# Altium footprint library HyTechDevices.PCBLIB: 298 footprints (part 12 of 19)
Each footprint in its own frame and in the unit in brackets; x right, y up, seen from the top. Pads: shape width x height; smd on the part's side, far side on the other; paste and mask are expansions set on the pad; w line width, h text height; cw(c..) or ccw(c..) is an arc to the next point about the centre after c.
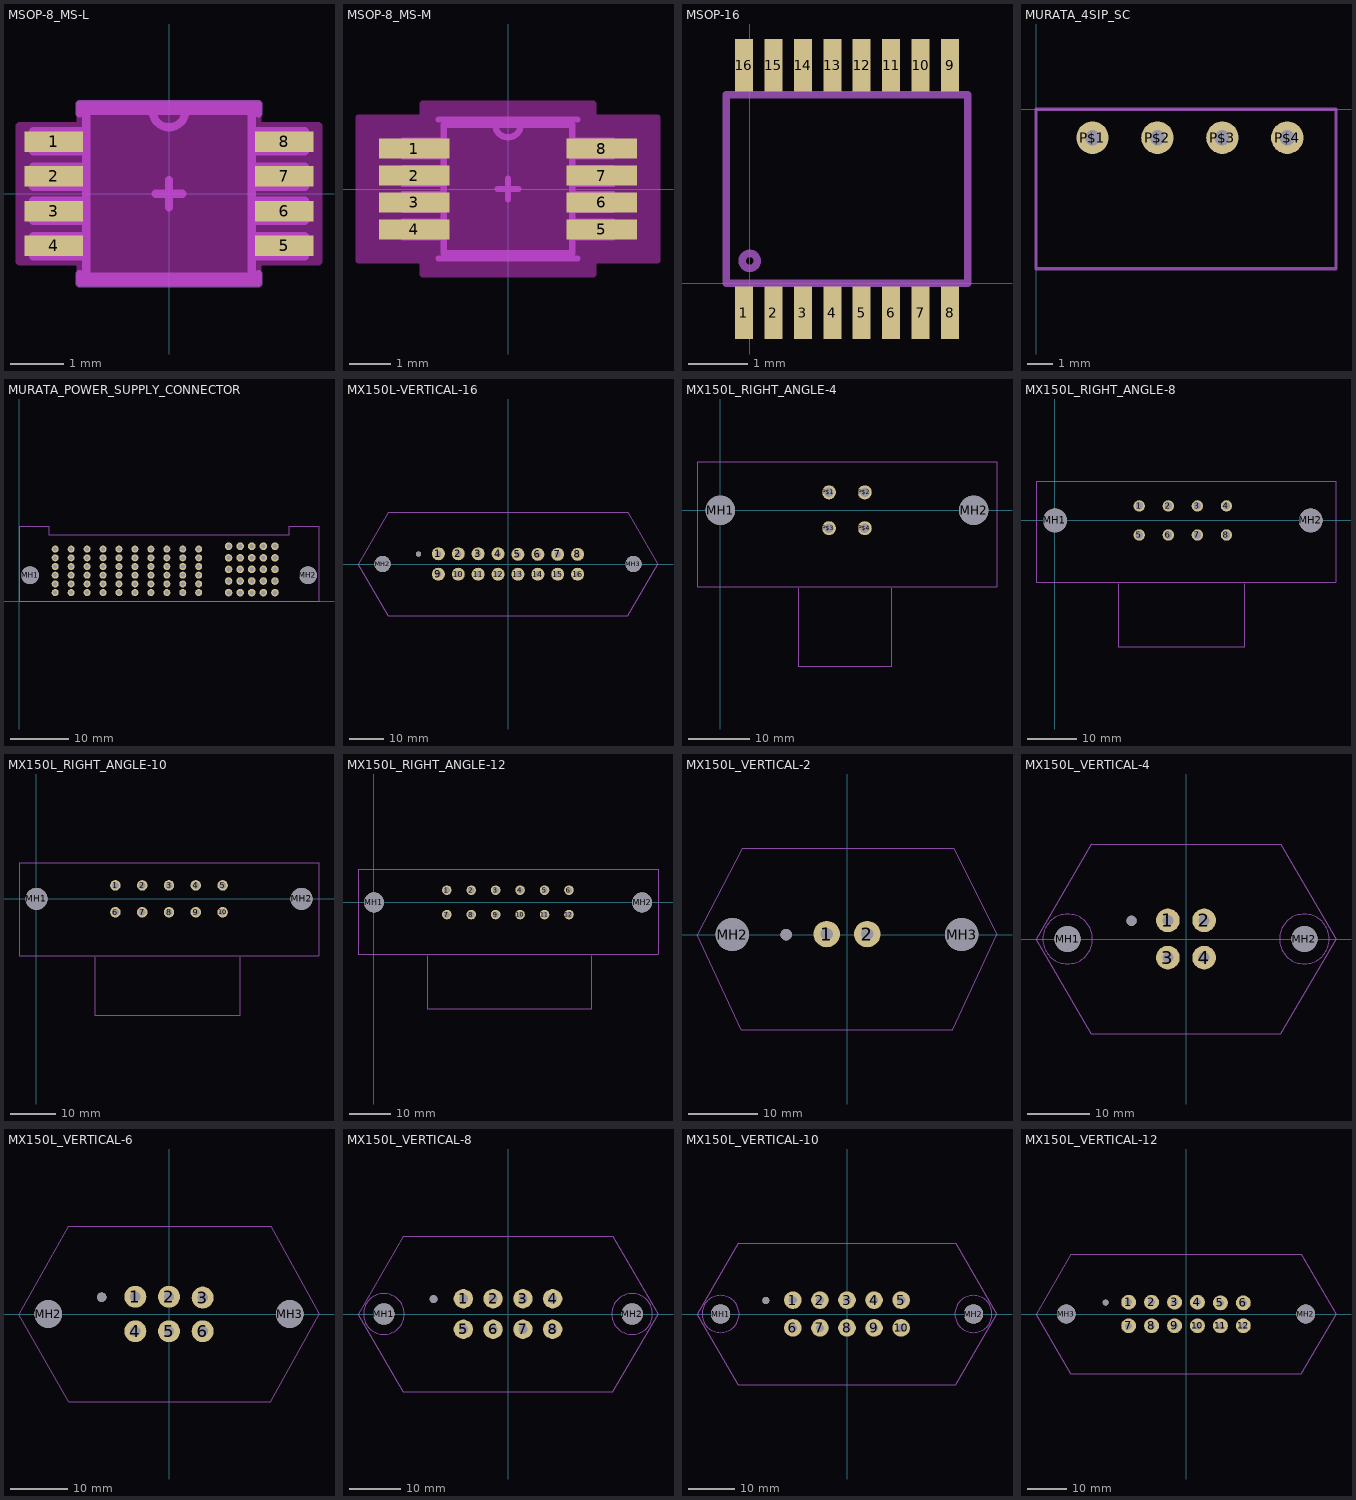
[diagram p11: the footprints below, top view; thin cyan lines are the x and y axes]

## MSOP-8_MS-L [mil]
pads (8):
  rect 43x15 smd: 1(-85,38.39) 2(-85,12.8) 3(-85,-12.8) 4(-85,-38.39) 5(85,-38.39) 6(85,-12.8) 7(85,12.8) 8(85,38.39)
Top Layer keep-out:
  region: -110.5,-49.89 -110.5,49.89 -65,49.89 -65,65 65,65 65,49.89 110.5,49.89 110.5,-49.89 65,-49.89 65,-65 -65,-65 -65,-49.89
  lines w6: -110,-50 -110,50 -65,50 -65,65 65,65 65,50 110,50 110,-50 65,-50 65,-65 -65,-65 -65,-50 -110,-50
Mechanical 3:
  lines w6: -12,61 12,61 ; -12,61 -61,61 -61,-61 61,-61 61,61 12,61 ; -12,61 ccw(c0,61) 12,61 ; -100,-46 -100,-31 -61,-31 -61,-46 -100,-46 ; -100,-20 -100,-5 -61,-5 -61,-20 -100,-20 ; -100,5 -100,20 -61,20 -61,5 -100,5 ; -100,31 -100,46 -61,46 -61,31 -100,31 ; 61,-46 61,-31 100,-31 100,-46 61,-46 ; 61,-20 61,-5 100,-5 100,-20 61,-20 ; 61,5 61,20 100,20 100,5 61,5 ; 61,31 61,46 100,46 100,31 61,31
  text "*" at -69,8 h77.5
Mechanical 7:
  lines w6: -66,-59 -66,-66 66,-66 66,-59 ; -66,59 -66,66 66,66 66,59
  text "*" at -118,48 h77.5
Top Component Center:
  lines w6: -10,0 10,0 ; 0,-10 0,10

## MSOP-8_MS-M [mil]
pads (8):
  rect 67x19 smd: 1(-89,38.39) 2(-89,12.8) 3(-89,-12.8) 4(-89,-38.39) 5(89,-38.39) 6(89,-12.8) 7(89,12.8) 8(89,38.39)
Top Layer keep-out:
  region: -142.5,-67.89 -142.5,67.89 -81,67.89 -81,81 81,81 81,67.89 142.5,67.89 142.5,-67.89 81,-67.89 81,-81 -81,-81 -81,-67.89
  lines w6: -142,-68 -142,68 -81,68 -81,81 81,81 81,68 142,68 142,-68 81,-68 81,-81 -81,-81 -81,-68 -142,-68
Mechanical 3:
  lines w6: -12,61 12,61 ; -12,61 -61,61 -61,-61 61,-61 61,61 12,61 ; -12,61 ccw(c0,61) 12,61 ; -100,-46 -100,-31 -61,-31 -61,-46 -100,-46 ; -100,-20 -100,-5 -61,-5 -61,-20 -100,-20 ; -100,5 -100,20 -61,20 -61,5 -100,5 ; -100,31 -100,46 -61,46 -61,31 -100,31 ; 61,-46 61,-31 100,-31 100,-46 61,-46 ; 61,-20 61,-5 100,-5 100,-20 61,-20 ; 61,5 61,20 100,20 100,5 61,5 ; 61,31 61,46 100,46 100,31 61,31
  text "*" at -69,8 h77.5
Mechanical 7:
  lines w6: -66,-66 66,-66 ; -66,66 66,66
  text "*" at -122,52 h77.5
Top Component Center:
  lines w6: -10,0 10,0 ; 0,-10 0,10

## MSOP-16 [mil]
pads (16):
  rect 12.01x35 smd: 1(-3.94,-19.69) 2(15.75,-19.69) 3(35.43,-19.69) 4(55.12,-19.69) 5(74.8,-19.69) 6(94.49,-19.69) 7(114.17,-19.69) 8(133.86,-19.69) 9(133.86,145.67) 10(114.17,145.67) 11(94.49,145.67) 12(74.8,145.67) 13(55.12,145.67) 14(35.43,145.67) 15(15.75,145.67) 16(-3.94,145.67)
Mechanical 7:
  circle w5: c0,15 r5
  lines w5: -15.75,0 -15.75,125.98 145.67,125.98 145.67,0 -15.75,0

## MURATA_4SIP_SC [mil]
pads (4):
  round 50 hole 23.62: P$1(87,-44) P$2(187,-44) P$3(287,-44) P$4(387,-44)
Mechanical 7:
  lines w5: 0,-246 0,0 462,0 462,-246 0,-246

## MURATA_POWER_SUPPLY_CONNECTOR [mil]
pads (87):
  round 51.5 hole 31.5: A1(1737.99,59.06) A2(1659.25,59.06) A3(1580.51,59.06) A4(1501.77,59.06) A5(1423.03,59.06) B1(1737.99,137.8) B2(1659.25,137.8) B3(1580.51,137.8) B4(1501.77,137.8) B5(1423.03,137.8) C1(1737.99,216.54) C2(1659.25,216.54) C3(1580.51,216.54) C4(1501.77,216.54) C5(1423.03,216.54) D1(1737.99,295.28) D2(1659.25,295.28) D3(1580.51,295.28) D4(1501.77,295.28) D5(1423.03,295.28) E1(1737.99,374.02) E2(1659.25,374.02) E3(1580.51,374.02) E4(1501.77,374.02) E5(1423.03,374.02)
  round 120.08 hole 120.08 unplated: MH1(74.8,177.17) MH2(1962.2,177.17)
  round 47.56 hole 27.56: P$1A(1220.28,354.33) P$1B(1220.28,295.28) P$1C(1220.28,236.22) P$1D(1220.28,177.17) P$1E(1220.28,118.11) P$1F(1220.28,59.06) P$2A(1112.01,354.33) P$2B(1112.01,295.28) P$2C(1112.01,236.22) P$2D(1112.01,177.17) P$2E(1112.01,118.11) P$2F(1112.01,59.06) P$3A(1003.74,354.33) P$3B(1003.74,295.28) P$3C(1003.74,236.22) P$3D(1003.74,177.17) P$3E(1003.74,118.11) P$3F(1003.74,59.06) P$4A(895.47,354.33) P$4B(895.47,295.28) P$4C(895.47,236.22) P$4D(895.47,177.17) P$4E(895.47,118.11) P$4F(895.47,59.06) P$5A(787.2,354.33) P$5B(787.2,295.28) P$5C(787.2,236.22) P$5D(787.2,177.17) P$5E(787.2,118.11) P$5F(787.2,59.06) P$6A(678.94,354.33) P$6B(678.94,295.28) P$6C(678.94,236.22) P$6D(678.94,177.17) P$6E(678.94,118.11) P$6F(678.94,59.06) P$7A(570.67,354.33) P$7B(570.67,295.28) P$7C(570.67,236.22) P$7D(570.67,177.17) P$7E(570.67,118.11) P$7F(570.67,59.06) P$8A(462.4,354.33) P$8B(462.4,295.28) P$8C(462.4,236.22) P$8D(462.4,177.17) P$8E(462.4,118.11) P$8F(462.4,59.06) P$9A(354.13,354.33) P$9B(354.13,295.28) P$9C(354.13,236.22) P$9D(354.13,177.17) P$9E(354.13,118.11) P$9F(354.13,59.06) P$10A(245.87,354.33) P$10B(245.87,295.28) P$10C(245.87,236.22) P$10D(245.87,177.17) P$10E(245.87,118.11) P$10F(245.87,59.06)
Mechanical 7:
  lines w5: 0,0 2037.01,0 2037.01,506.69 1830.32,506.69 1830.32,450 206.69,450 206.69,506.69 0,506.69 0,0

## MX150L-VERTICAL-16 [mil]
pads (19):
  round 150 hole 70: 1(-805,118) 2(-575,118) 3(-345,118) 4(-115,118) 5(115,112) 6(345,112) 7(575,112) 8(805,112) 9(-805,-118) 10(-575,-118) 11(-345,-118) 12(-115,-118) 13(115,-118) 14(345,-118) 15(575,-118) 16(805,-118)
  round 60 hole 60 unplated: MH1(-1035,115)
  round 188 hole 188 unplated: MH2(-1450,0) MH3(1450,0)
Mechanical 7:
  lines w5: -1734.5,0 -1384.5,600 1384.5,600 1734.5,0 1384.5,-600 -1384.5,-600 -1734.5,0

## MX150L_RIGHT_ANGLE-4 [mil]
pads (6):
  round 188 hole 188 unplated: MH1(0,0) MH2(1624,0)
  round 90 hole 60: P$1(696,115) P$2(926,115) P$3(696,-115) P$4(926,-115)
Mechanical 7:
  lines w5: 500,-500 500,-1000 1100,-1000 1100,-500 ; -150,-490 1774,-490 1774,311 -150,311 -150,-490

## MX150L_RIGHT_ANGLE-8 [mil]
pads (10):
  round 90 hole 60: 1(667,115) 2(897,115) 3(1127,115) 4(1357,115) 5(667,-115) 6(897,-115) 7(1127,-115) 8(1357,-115)
  round 188 hole 188 unplated: MH1(0,0) MH2(2024,0)
Mechanical 7:
  lines w5: 500,-500 500,-1000 1500,-1000 1500,-500 ; -150,-490 2224,-490 2224,311 -150,311 -150,-490

## MX150L_RIGHT_ANGLE-10 [mil]
pads (12):
  round 90 hole 60: 1(677,115) 2(907,115) 3(1137,115) 4(1367,115) 5(1597,115) 6(677,-115) 7(907,-115) 8(1137,-115) 9(1367,-115) 10(1597,-115)
  round 188 hole 188 unplated: MH1(0,0) MH2(2274,0)
Mechanical 7:
  lines w5: 500,-500 500,-1000 1750,-1000 1750,-500 ; -150,-490 2424,-490 2424,311 -150,311 -150,-490

## MX150L_RIGHT_ANGLE-12 [mil]
pads (14):
  round 90 hole 60: 1(686,115) 2(916,115) 3(1146,115) 4(1376,115) 5(1606,115) 6(1836,115) 7(686,-115) 8(916,-115) 9(1146,-115) 10(1376,-115) 11(1606,-115) 12(1836,-115)
  round 188 hole 188 unplated: MH1(0,0) MH2(2524,0)
Mechanical 7:
  lines w5: 500,-500 500,-1000 2050,-1000 2050,-500 ; -150,-490 2674,-490 2674,311 -150,311 -150,-490

## MX150L_VERTICAL-2 [mil]
pads (5):
  round 150 hole 70: 1(-115,3) 2(115,3)
  round 65 hole 65 unplated: MH1(-345,0)
  round 188 hole 188 unplated: MH2(-650,0) MH3(650,0)
Mechanical 7:
  lines w5: -850,0 -595,490 605,490 850,0 600,-540 -600,-540 -850,0

## MX150L_VERTICAL-4 [mil]
pads (7):
  round 150 hole 70: 1(-115,118) 2(115,118) 3(-115,-118) 4(115,-118)
  round 165 hole 165 unplated: MH1(-750,0) MH2(750,0)
  round 65 hole 65 unplated: MH3(-345,115)
Mechanical 7:
  circle w5: c-750,0 r157.48
  circle w5: c750,0 r157.48
  lines w5: -950,0 -600,600 600,600 950,0 600,-600 -600,-600 -950,0
Mechanical 8:
  circle w5: c-750,0 r157.48
  circle w5: c750,0 r157.48

## MX150L_VERTICAL-6 [mil]
pads (9):
  round 150 hole 70: 1(-230,118) 2(0,118) 3(230,112) 4(-230,-118) 5(0,-118) 6(230,-118)
  round 65 hole 65 unplated: MH1(-460,115)
  round 188 hole 188 unplated: MH2(-825,0) MH3(825,0)
Mechanical 7:
  lines w5: -1025,0 -690,600 695,600 1025,0 695,-600 -685,-600 -1025,0

## MX150L_VERTICAL-8 [mil]
pads (11):
  round 150 hole 70: 1(-345,118) 2(-115,118) 3(115,118) 4(345,118) 5(-345,-118) 6(-115,-118) 7(115,-118) 8(345,-118)
  round 165 hole 165 unplated: MH1(-959.5,0) MH2(959.5,0)
  round 60 hole 60 unplated: MH3(-575,115)
Mechanical 7:
  circle w5: c-959.5,0 r157.48
  circle w5: c959.5,0 r157.48
  lines w5: -1159.5,0 -809.5,600 809.5,600 1159.5,0 809.5,-600 -809.5,-600 -1159.5,0
Mechanical 8:
  circle w5: c-959.5,0 r157.48
  circle w5: c959.5,0 r157.48

## MX150L_VERTICAL-10 [mil]
pads (13):
  round 150 hole 70: 1(-460,118) 2(-230,118) 3(0,118) 4(230,118) 5(460,118) 6(-460,-118) 7(-230,-118) 8(0,-118) 9(230,-118) 10(460,-118)
  round 165 hole 165 unplated: MH1(-1074.5,0) MH2(1074.5,0)
  round 60 hole 60 unplated: MH3(-690,115)
Mechanical 7:
  circle w5: c-1074.5,0 r157.48
  circle w5: c1074.5,0 r157.48
  lines w5: -1274.5,0 -924.5,600 924.5,600 1274.5,0 924.5,-600 -924.5,-600 -1274.5,0
Mechanical 8:
  circle w5: c-1074.5,0 r157.48
  circle w5: c1074.5,0 r157.48

## MX150L_VERTICAL-12 [mil]
pads (15):
  round 150 hole 70: 1(-575,118) 2(-345,118) 3(-115,118) 4(115,118) 5(345,112) 6(575,112) 7(-575,-118) 8(-345,-118) 9(-115,-118) 10(115,-118) 11(345,-118) 12(575,-118)
  round 60 hole 60 unplated: MH1(-805,115)
  round 188 hole 188 unplated: MH2(1200,0) MH3(-1200,0)
Mechanical 7:
  lines w5: -1504.5,0 -1154.5,600 1154.5,600 1504.5,0 1154.5,-600 -1154.5,-600 -1504.5,0